# Altium integrated library PZ-ESP8266.IntLib: 8 symbols
Pins are listed as number, name and electrical type; pins without a type are passive.

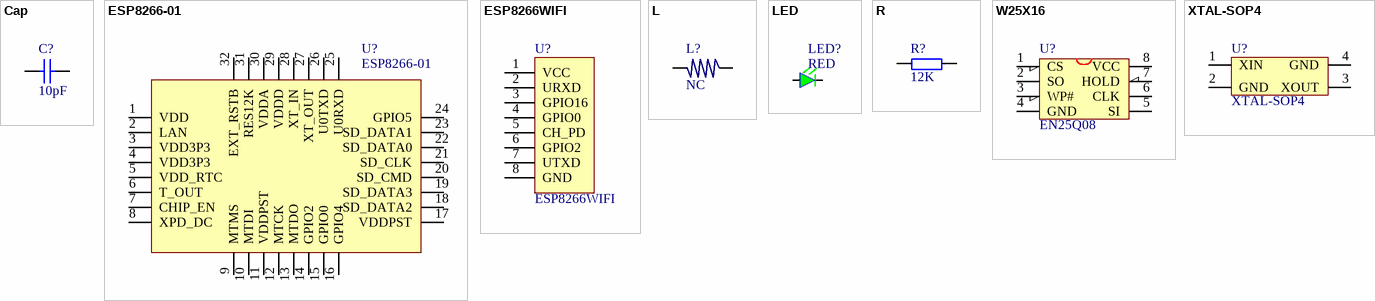
[diagram p0: symbols Cap to XTAL-SOP4]

## Cap
designator C?, comment 10pF
Capacitor; Value: 22pf; Published: 8-Jun-2000; LatestRevisionDate: 17-Jul-2002; LatestRevisionNote: Re-released for DXP Platform.; PackageReference: RAD-0.3; Publisher: Altium Limited
simulation model CAP (Capacitor)
signal-integrity model Cap
footprint 0603
footprint 0603P
pins: 1, 2

## ESP8266-01
designator U?
footprint QFN50P500X500X80-32N (QFN, 32-Leads, Body 5.1x5.1mm (max), Pitch 0.50mm, IPC Medium Density)
footprint QFN50P500X500X80-32N (QFN, 32-Leads, Body 5.1x5.1mm (max), Pitch 0.50mm, IPC Medium Density)
pins: 1 VDD, 2 LAN, 3 VDD3P3, 4 VDD3P3, 5 VDD_RTC, 6 T_OUT, 7 CHIP_EN, 8 XPD_DC, 9 MTMS, 10 MTDI, 11 VDDPST, 12 MTCK, 13 MTDO, 14 GPIO2, 15 GPIO0, 16 GPIO4, 17 VDDPST, 18 SD_DATA2, 19 SD_DATA3, 20 SD_CMD, 21 SD_CLK, 22 SD_DATA0, 23 SD_DATA1, 24 GPIO5, 25 U0RXD, 26 U0TXD, 27 XT_OUT, 28 XT_IN, 29 VDDD, 30 VDDA, 31 RES12K, 32 EXT_RSTB

## ESP8266WIFI
designator U?
footprint HDR2X4 (Connector; Header; 4x2 Position)
pins: 1 VCC, 2 URXD, 3 GPIO16, 4 GPIO0, 5 CH_PD, 6 GPIO2, 7 UTXD, 8 GND

## L
designator L?, comment NC
footprint L3A (L)
footprint L4.7
footprint L_USER (SELF_DEF)
footprint L10 (10mH)
footprint SMD7850
footprint 0805
footprint 1206
footprint L_SOPL (L_LARGE)
footprint L_CD43 (4mm*4mm)
footprint 0603P
footprint L_SOP4 (4mm*4mm*1.7mm)
pins: 1, 2

## LED
designator LED?, comment RED
footprint LED3
footprint LED0603
footprint SIP2
footprint led_dip2
footprint LED0603 (发光二极管（贴片）)
pins: A a, K k

## R
designator R?, comment 12K
footprint 0805
footprint 0603P
footprint RL (10o/0.7uH)
footprint R16.0 (RX/1W)
footprint 1206
footprint 1210
footprint R20.0 (RX/2W)
footprint R10.16 (STD)
footprint RLN9 (13.5mm*5.1mm)
footprint 0603P
pins: 1, 2

## W25X16
designator U?, comment EN25Q08
W25X16;SST25VF016;MX25L1605
footprint SOIC-8
footprint SOIC-8
pins: 1 CS, 2 SO, 3 WP#, 4 GND, 5 SI, 6 CLK, 7 HOLD, 8 VCC

## XTAL-SOP4
designator U?
footprint 贴片晶振
footprint XTAL3225
pins: 1 XIN, 2 GND, 3 XOUT, 4 GND